# Altium footprint library SW_BOURNS_PEC12R.PcbLib: 1 footprints
Each footprint in its own frame and in the unit in brackets; x right, y up, seen from the top. Pads: shape width x height; smd on the part's side, far side on the other; paste and mask are expansions set on the pad; w line width, h text height; cw(c..) or ccw(c..) is an arc to the next point about the centre after c.
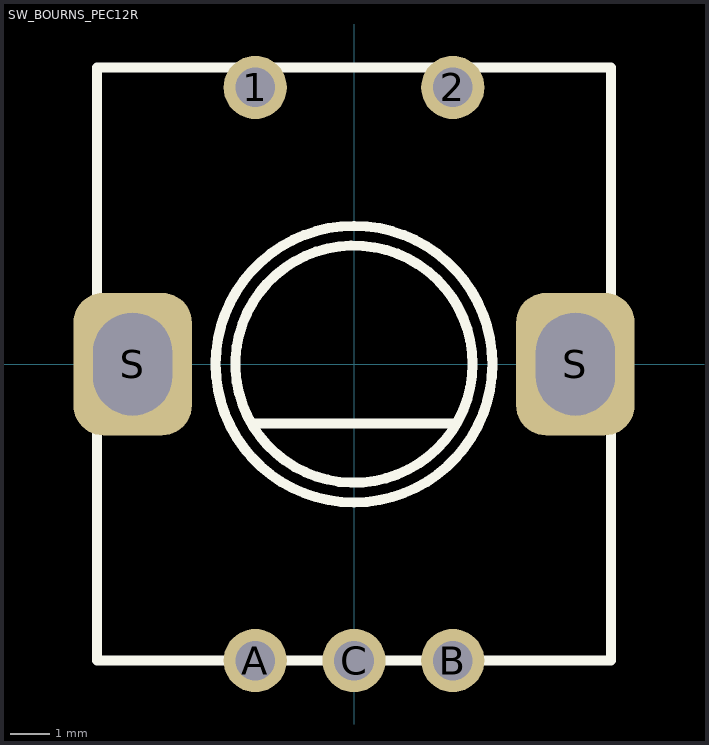
[diagram p0: the footprint, top view; thin cyan lines are the x and y axes]

## SW_BOURNS_PEC12R [mm]
pads (7):
  round 1.6 hole 1: 1(-2.5,7) 2(2.5,7) A(-2.5,-7.5) B(2.5,-7.5) C(0,-7.5)
  rrect50% 3x3.6 hole 2 slot 2.6 at 90 deg: S(-5.6,0) S(5.6,0)
Top Overlay:
  circle w0.254: c0,0 r3.5
  circle w0.254: c0,0 r3
  lines w0.254: -2.5,-1.5 2.5,-1.5 ; -6.5,-7.5 -6.5,7.5 6.5,7.5 6.5,-7.5 -6.5,-7.5
3D body: height 16.2, standoff -4.83, extent -7.503,-7.5 7.503,7.5